# EAGLE library part ULN2803A (library we-chip)
ULN2803 8-Bit Transistor Array (Low Side) with clamp diodes Vmax 50 V Imax 500 mA/ch
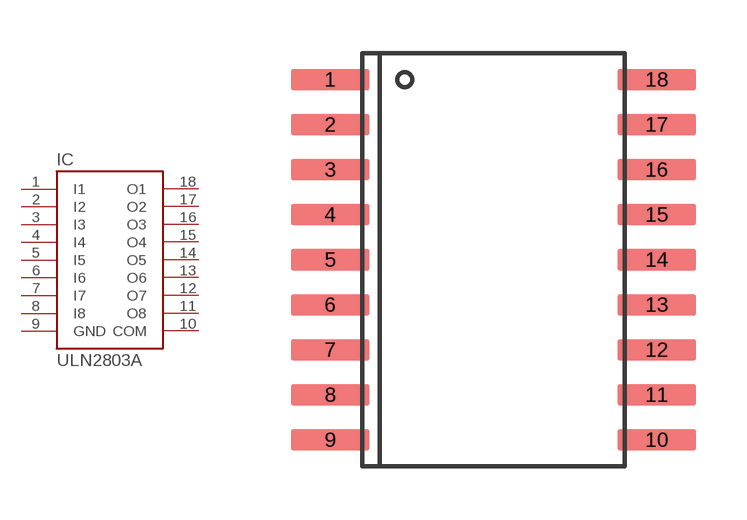
[diagram p30: symbol with the pads of SO18W; footprint SO18W]

Designator prefix IC

## ULN2803A-DW  [SO18W]
1  I1  in
2  I2  in
3  I3  in
4  I4  in
5  I5  in
6  I6  in
7  I7  in
8  I8  in
9  GND  pwr
10  COM  pas
11  O8  oc
12  O7  oc
13  O6  oc
14  O5  oc
15  O4  oc
16  O3  oc
17  O2  oc
18  O1  oc

## Footprint SO18W (pad centres in mm)
smd 2.2 x 0.6: 1 -4.6,5.08; 2 -4.6,3.81; 3 -4.6,2.54; 4 -4.6,1.27; 5 -4.6,0; 6 -4.6,-1.27; 7 -4.6,-2.54; 8 -4.6,-3.81; 9 -4.6,-5.08; 10 4.6,-5.08; 11 4.6,-3.81; 12 4.6,-2.54; 13 4.6,-1.27; 14 4.6,0; 15 4.6,1.27; 16 4.6,2.54; 17 4.6,3.81; 18 4.6,5.08